# Altium schematic symbol library 电源板.SCHLIB: 13 symbols
Pins are listed as number, name and electrical type; pins without a type are passive.

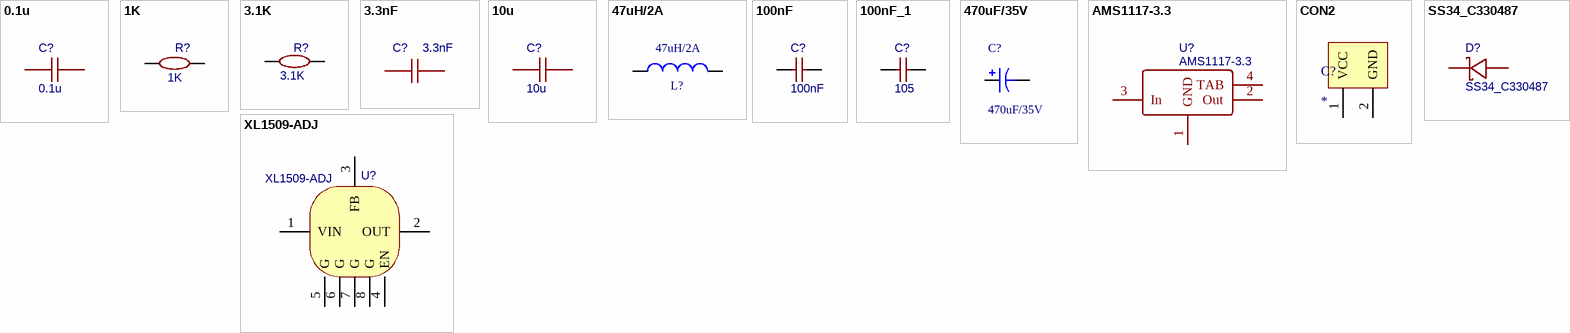
[diagram p0: symbols 0.1u to XL1509-ADJ]

## 0.1u
designator C?
nameAlias: Value(F); Contributor: LCEDA_Lib; spicePre: C; spiceSymbolName: C_0603_US
footprint C0603
pins: 1, 2

## 1K
designator R?
BOM_Manufacturer Part: RC0603FR-071KL; BOM_Manufacturer: YAGEO; nameAlias: Resistance (Ohms); BOM_Supplier: LCSC; BOM_Supplier Part: C22548; spicePre: R; spiceSymbolName: RC0603FR-071KL
footprint 0603
pins: 1, 2

## 3.1K
designator R?
BOM_Manufacturer Part: RC0603FR-071KL; BOM_Manufacturer: YAGEO; nameAlias: Resistance (Ohms); BOM_Supplier: LCSC; BOM_Supplier Part: C22548; spicePre: R; spiceSymbolName: RC0603FR-071KL
footprint 0603
pins: 1, 2

## 3.3nF
designator C?
BOM_Manufacturer: Guangdong Fenghua Advanced Tech; BOM_Manufacturer Part: 0603CG332J500NT; nameAlias: Capacitance; Contributor: LCSC; BOM_Supplier: LCSC; BOM_Supplier Part: C190576; spicePre: C; spiceSymbolName: 0603CG332J500NT
footprint C0603
pins: 1, 2

## 10u
designator C?
nameAlias: Value(F); Contributor: LCEDA_Lib; spicePre: C; spiceSymbolName: C_0603_US
footprint C0603
pins: 1, 2

## 47uH/2A
designator L?
Code_IEC: 1005; LatestRevisionDate: 29-May-2009; LatestRevisionNote: IPC-7351 Footprint Added.; PackageReference: 0402-A; Publisher: Altium Limited; PackageDescription: Chip Inductor; Code_JEITA: 0402
footprint IND-SMD_L7.1-W6.6
pins: 1, 2

## 100nF
designator C?
BOM_Manufacturer Part: 0603B104K160; BOM_Manufacturer: WTC; nameAlias: Capacitance; BOM_Supplier: LCSC; BOM_Supplier Part: C80516; spicePre: C; spiceSymbolName: 0603B104K160
footprint C0603
pins: 1, 2

## 100nF_1
designator C?, comment 105
BOM_Manufacturer Part: 0603B104K160; BOM_Manufacturer: WTC; nameAlias: Capacitance; BOM_Supplier: LCSC; BOM_Supplier Part: C80516; spicePre: C; spiceSymbolName: 0603B104K160
footprint C0603
pins: 1, 2

## 470uF/35V
designator C?
Published: 8-Jun-2000; LatestRevisionDate: 17-Jul-2002; LatestRevisionNote: Re-released for DXP Platform.; PackageReference: RB7.6-15; Publisher: Altium Limited; PackageDescription: Polarized Capacitor (Radial); 2 Leads
footprint CAP-SMD_BD12.5-L13.0-W13.0-LS13.7-FD
pins: 1, 2

## AMS1117-3.3
designator U?
BOM_Manufacturer: AMS; sourceId: dwIGgezVh; SMT Type: Basic; Contributor: haohan123; timeStamp: 1476261164; BOM_Supplier: LCSC; BOM_Manufacturer Part: AMS1117-3.3; BOM_LCSC Assembly: Yes; image: //image.lceda.cn/szlcsc/C6186.jpg; BOM_Supplier Part: C6186; spicePre: U; spiceSymbolName: AMS1117-3.3
footprint SOT-223_L6.5-W3.5-P2.30-LS7.0-BR
pins: 1 GND, 2 Out, 3 In, 4 TAB

## CON2
designator C?
pins: 1 VCC, 2 GND

## SS34_C330487
designator D?
BOM_Manufacturer: LGE; BOM_Manufacturer Part: SS34; Contributor: LCSC; BOM_Supplier: LCSC; BOM_Supplier Part: C330487; spicePre: D; spiceSymbolName: SS34_C330487
footprint SMB_L4.6-W3.6-LS5.3-RD
pins: 1 K, 2 A

## XL1509-ADJ
designator U?
Contributor: XYCWJ; spicePre: U; spiceSymbolName: XL1509-ADJ
footprint SOP8
pins: 1 VIN, 2 OUT, 3 FB, 4 EN, 5 G, 6 G, 7 G, 8 G